# EAGLE library part 50224-018 (library con-aces-50224-series)
ACES CONNECTORS 50224 SERIES Aces Connectors 50224 <https://www.acesconn.com/tw/series/50224-xxxxx-xxx/3165>
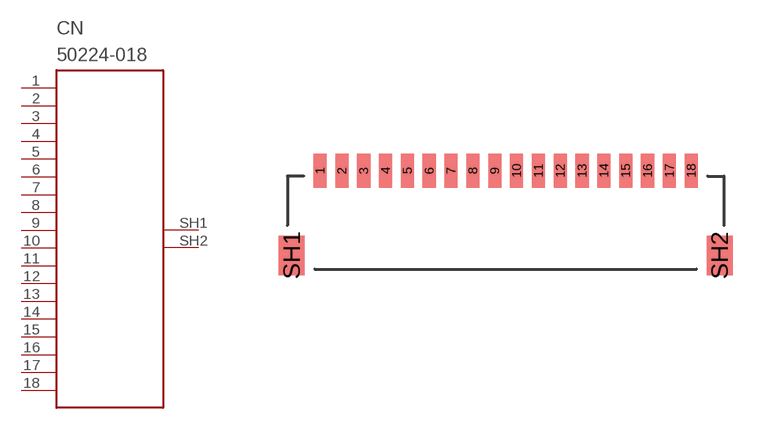
[diagram p14: symbol with the pads of 50224-018; footprint 50224-018]

Designator prefix CN

## 50224-018  [50224-018]
1  1
2  2
3  3
4  4
5  5
6  6
7  7
8  8
9  9
10  10
11  11
12  12
13  13
14  14
15  15
16  16
17  17
18  18
SH1  SH1
SH2  SH2

## Footprint 50224-018 (pad centres in mm)
smd 0.6 x 1.55: 1 -8.5,0; 2 -7.5,0; 3 -6.5,0; 4 -5.5,0; 5 -4.5,0; 6 -3.5,0; 7 -2.5,0; 8 -1.5,0; 9 -0.5,0; 10 0.5,0; 11 1.5,0; 12 2.5,0; 13 3.5,0; 14 4.5,0; 15 5.5,0; 16 6.5,0; 17 7.5,0; 18 8.5,0
smd 1.2 x 1.8: SH1 -9.8,-3.875; SH2 9.8,-3.875